# EAGLE library part AD9834 (library parts)
Analog Devices AD9834
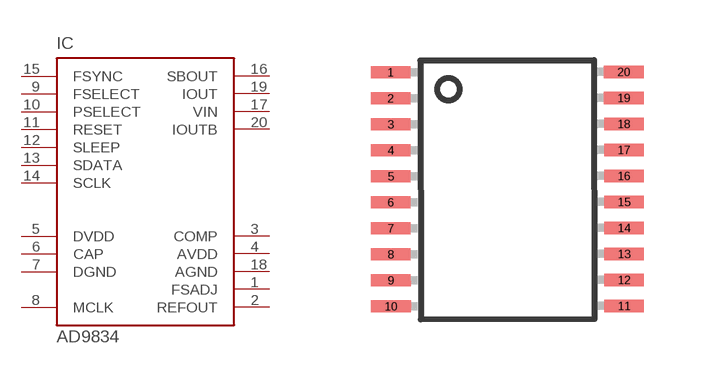
[diagram p0: symbol with the pads of TSSOP20; footprint TSSOP20]

Designator prefix IC

## AD9834  [TSSOP20]
1  FSADJ  in
2  REFOUT  out
3  COMP  out
4  AVDD  pwr
5  DVDD  pwr
6  CAP  pwr
7  DGND  pwr
8  MCLK  in
9  FSELECT  in
10  PSELECT  in
11  RESET  in
12  SLEEP  in
13  SDATA  in
14  SCLK  in
15  FSYNC  in
16  SBOUT  out
17  VIN  in
18  AGND  pwr
19  IOUT  out
20  IOUTB  out

## Footprint TSSOP20 (pad centres in mm)
smd 0.305 x 0.991 rotated 270.1: 1 -2.931,3.568; 2 -2.929,2.918; 3 -2.928,2.268; 4 -2.927,1.618; 5 -2.926,0.968; 6 -2.925,0.318; 7 -2.924,-0.332; 8 -2.923,-0.982; 9 -2.922,-1.632; 10 -2.92,-2.282; 11 2.915,-2.272; 12 2.914,-1.622; 13 2.913,-0.972; 14 2.912,-0.322; 15 2.91,0.328; 16 2.909,0.978; 17 2.908,1.628; 18 2.907,2.278; 19 2.906,2.928; 20 2.905,3.578